# Altium footprint library Linear Technology PMIC-Switching Reg LT1074-LT8705.PcbLib: 146 footprints (part 3 of 10)
Each footprint in its own frame and in the unit in brackets; x right, y up, seen from the top. Pads: shape width x height; smd on the part's side, far side on the other; paste and mask are expansions set on the pad; w line width, h text height; cw(c..) or ccw(c..) is an arc to the next point about the centre after c.
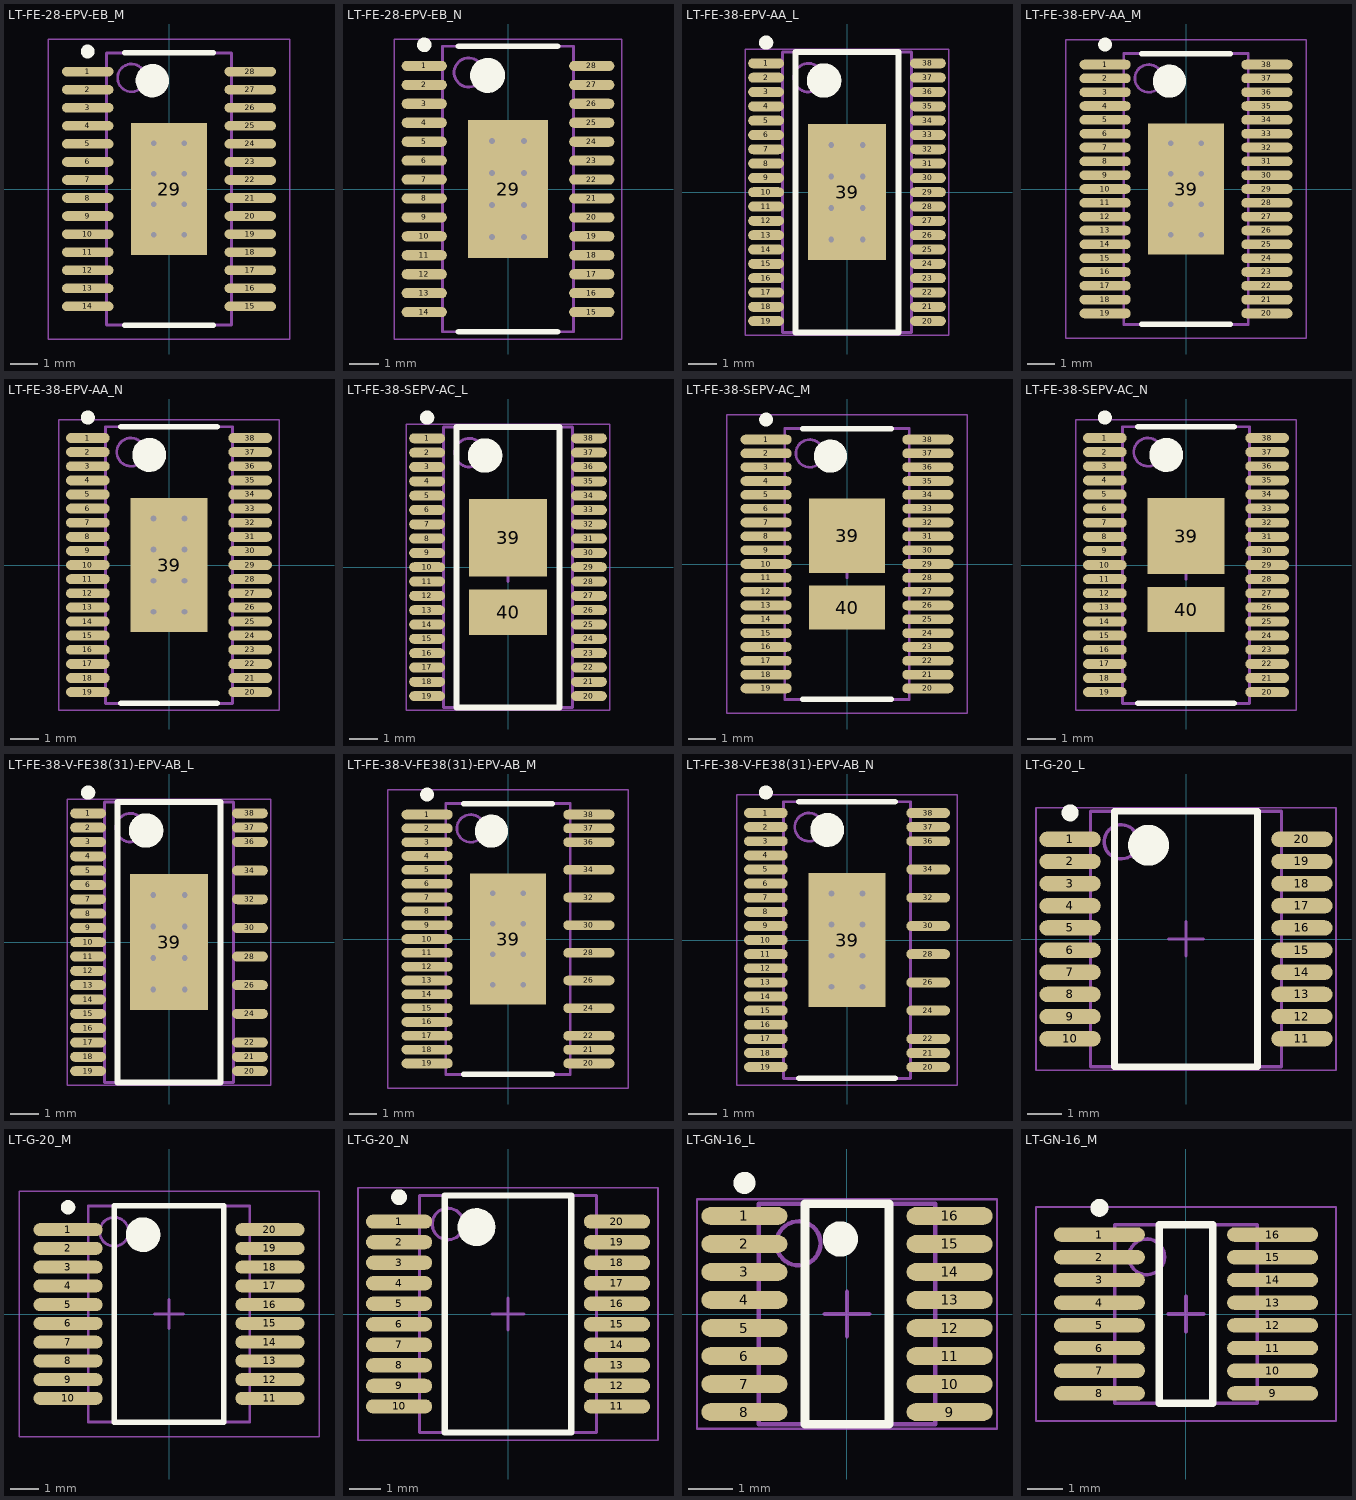
[diagram p2: the footprints below, top view; thin cyan lines are the x and y axes]

## LT-FE-28-EPV-EB_M [mm] "SOP, 28-Leads, Body 9.8x4.5mm, Pitch 0.65mm, Thermal Pad 4.75x2.74mm, IPC Low Density"
height 1.2
pads (29):
  oval 1.85x0.35 smd: 1(-2.925,4.225) 2(-2.925,3.575) 3(-2.925,2.925) 4(-2.925,2.275) 5(-2.925,1.625) 6(-2.925,0.975) 7(-2.925,0.325) 8(-2.925,-0.325) 9(-2.925,-0.975) 10(-2.925,-1.625) 11(-2.925,-2.275) 12(-2.925,-2.925) 13(-2.925,-3.575) 14(-2.925,-4.225) 15(2.925,-4.225) 16(2.925,-3.575) 17(2.925,-2.925) 18(2.925,-2.275) 19(2.925,-1.625) 20(2.925,-0.975) 21(2.925,-0.325) 22(2.925,0.325) 23(2.925,0.975) 24(2.925,1.625) 25(2.925,2.275) 26(2.925,2.925) 27(2.925,3.575) 28(2.925,4.225)
  rect 2.74x4.75 smd: 29(0,0)
via -0.55,1.65 diameter 0.5 hole 0.2
via 0.55,1.65 diameter 0.5 hole 0.2
via -0.55,0.55 diameter 0.5 hole 0.2
via 0.55,0.55 diameter 0.5 hole 0.2
via -0.55,-0.55 diameter 0.5 hole 0.2
via 0.55,-0.55 diameter 0.5 hole 0.2
via -0.55,-1.65 diameter 0.5 hole 0.2
via 0.55,-1.65 diameter 0.5 hole 0.2
Top Overlay:
  circle w0.25: c-2.925,4.95 r0.125
  circle w0.6: c-0.6,3.9 r0.3
  lines w0.2: -1.6,-4.9 1.6,-4.9 ; -1.6,4.9 1.6,4.9
Mechanical 13:
  circle w0.1: c-1.35,4 r0.5
  lines w0.1: -2.25,-4.9 -2.25,4.9 2.25,4.9 2.25,-4.9 -2.25,-4.9
Mechanical 15:
  lines w0.05: -4.35,-5.4 -4.35,5.4 4.35,5.4 4.35,-5.4 -4.35,-5.4
  lines w0.1: -0.5,0 0.5,0 ; 0,-0.5 0,0.5
3D body: height 1.2, standoff 0.05, extent -2.25,-4.9 2.25,4.9

## LT-FE-28-EPV-EB_N [mm] "SOP, 28-Leads, Body 9.8x4.5mm, Pitch 0.65mm, Thermal Pad 4.75x2.74mm, IPC Medium Density"
height 1.2
pads (29):
  oval 1.55x0.35 smd: 1(-2.875,4.225) 2(-2.875,3.575) 3(-2.875,2.925) 4(-2.875,2.275) 5(-2.875,1.625) 6(-2.875,0.975) 7(-2.875,0.325) 8(-2.875,-0.325) 9(-2.875,-0.975) 10(-2.875,-1.625) 11(-2.875,-2.275) 12(-2.875,-2.925) 13(-2.875,-3.575) 14(-2.875,-4.225) 15(2.875,-4.225) 16(2.875,-3.575) 17(2.875,-2.925) 18(2.875,-2.275) 19(2.875,-1.625) 20(2.875,-0.975) 21(2.875,-0.325) 22(2.875,0.325) 23(2.875,0.975) 24(2.875,1.625) 25(2.875,2.275) 26(2.875,2.925) 27(2.875,3.575) 28(2.875,4.225)
  rect 2.74x4.75 smd: 29(0,0)
via -0.55,1.65 diameter 0.5 hole 0.2
via 0.55,1.65 diameter 0.5 hole 0.2
via -0.55,0.55 diameter 0.5 hole 0.2
via 0.55,0.55 diameter 0.5 hole 0.2
via -0.55,-0.55 diameter 0.5 hole 0.2
via 0.55,-0.55 diameter 0.5 hole 0.2
via -0.55,-1.65 diameter 0.5 hole 0.2
via 0.55,-1.65 diameter 0.5 hole 0.2
Top Overlay:
  circle w0.25: c-2.875,4.95 r0.125
  circle w0.6: c-0.7,3.9 r0.3
  lines w0.2: -1.7,-4.9 1.7,-4.9 ; -1.7,4.9 1.7,4.9
Mechanical 13:
  circle w0.1: c-1.35,4 r0.5
  lines w0.1: -2.25,-4.9 -2.25,4.9 2.25,4.9 2.25,-4.9 -2.25,-4.9
Mechanical 15:
  lines w0.05: -3.9,-5.15 -3.9,5.15 3.9,5.15 3.9,-5.15 -3.9,-5.15
  lines w0.1: -0.5,0 0.5,0 ; 0,-0.5 0,0.5
3D body: height 1.2, standoff 0.05, extent -2.25,-4.9 2.25,4.9

## LT-FE-38-EPV-AA_L [mm] "SOP, 38-Leads, Body 9.8x4.5mm, Pitch 0.5mm, Thermal Pad 4.75x2.74mm, IPC High Density"
height 1.2
pads (39):
  oval 1.25x0.35 smd: 1(-2.825,4.5) 2(-2.825,4) 3(-2.825,3.5) 4(-2.825,3) 5(-2.825,2.5) 6(-2.825,2) 7(-2.825,1.5) 8(-2.825,1) 9(-2.825,0.5) 10(-2.825,0) 11(-2.825,-0.5) 12(-2.825,-1) 13(-2.825,-1.5) 14(-2.825,-2) 15(-2.825,-2.5) 16(-2.825,-3) 17(-2.825,-3.5) 18(-2.825,-4) 19(-2.825,-4.5) 20(2.825,-4.5) 21(2.825,-4) 22(2.825,-3.5) 23(2.825,-3) 24(2.825,-2.5) 25(2.825,-2) 26(2.825,-1.5) 27(2.825,-1) 28(2.825,-0.5) 29(2.825,0) 30(2.825,0.5) 31(2.825,1) 32(2.825,1.5) 33(2.825,2) 34(2.825,2.5) 35(2.825,3) 36(2.825,3.5) 37(2.825,4) 38(2.825,4.5)
  rect 2.74x4.75 smd: 39(0,0)
via 0.55,-1.65 diameter 0.5 hole 0.2
via -0.55,-1.65 diameter 0.5 hole 0.2
via 0.55,-0.55 diameter 0.5 hole 0.2
via -0.55,-0.55 diameter 0.5 hole 0.2
via 0.55,0.55 diameter 0.5 hole 0.2
via -0.55,0.55 diameter 0.5 hole 0.2
via 0.55,1.65 diameter 0.5 hole 0.2
via -0.55,1.65 diameter 0.5 hole 0.2
Top Overlay:
  circle w0.6: c-0.8,3.9 r0.3
  circle w0.25: c-2.825,5.225 r0.125
  lines w0.2: -1.8,-4.9 1.8,-4.9 1.8,4.9 -1.8,4.9 -1.8,-4.9
Mechanical 13:
  circle w0.1: c-1.35,4 r0.5
  lines w0.1: -2.25,-4.9 2.25,-4.9 2.25,4.9 -2.25,4.9 -2.25,-4.9
Mechanical 15:
  lines w0.05: -3.55,-5 3.55,-5 3.55,5 -3.55,5 -3.55,-5
  lines w0.1: -0.5,0 0.5,0 ; 0,-0.5 0,0.5
3D body: height 1.2, standoff 0.05, extent -2.25,-4.9 2.25,4.9

## LT-FE-38-EPV-AA_M [mm] "SOP, 38-Leads, Body 9.8x4.5mm, Pitch 0.5mm, Thermal Pad 4.75x2.74mm, IPC Low Density"
height 1.2
pads (39):
  oval 1.85x0.35 smd: 1(-2.925,4.5) 2(-2.925,4) 3(-2.925,3.5) 4(-2.925,3) 5(-2.925,2.5) 6(-2.925,2) 7(-2.925,1.5) 8(-2.925,1) 9(-2.925,0.5) 10(-2.925,0) 11(-2.925,-0.5) 12(-2.925,-1) 13(-2.925,-1.5) 14(-2.925,-2) 15(-2.925,-2.5) 16(-2.925,-3) 17(-2.925,-3.5) 18(-2.925,-4) 19(-2.925,-4.5) 20(2.925,-4.5) 21(2.925,-4) 22(2.925,-3.5) 23(2.925,-3) 24(2.925,-2.5) 25(2.925,-2) 26(2.925,-1.5) 27(2.925,-1) 28(2.925,-0.5) 29(2.925,0) 30(2.925,0.5) 31(2.925,1) 32(2.925,1.5) 33(2.925,2) 34(2.925,2.5) 35(2.925,3) 36(2.925,3.5) 37(2.925,4) 38(2.925,4.5)
  rect 2.74x4.75 smd: 39(0,0)
via 0.55,-1.65 diameter 0.5 hole 0.2
via -0.55,-1.65 diameter 0.5 hole 0.2
via 0.55,-0.55 diameter 0.5 hole 0.2
via -0.55,-0.55 diameter 0.5 hole 0.2
via 0.55,0.55 diameter 0.5 hole 0.2
via -0.55,0.55 diameter 0.5 hole 0.2
via 0.55,1.65 diameter 0.5 hole 0.2
via -0.55,1.65 diameter 0.5 hole 0.2
Top Overlay:
  circle w0.6: c-0.6,3.9 r0.3
  circle w0.25: c-2.925,5.225 r0.125
  lines w0.2: -1.6,-4.9 1.6,-4.9 ; -1.6,4.9 1.6,4.9
Mechanical 13:
  circle w0.1: c-1.35,4 r0.5
  lines w0.1: -2.25,-4.9 2.25,-4.9 2.25,4.9 -2.25,4.9 -2.25,-4.9
Mechanical 15:
  lines w0.05: -4.35,-5.4 4.35,-5.4 4.35,5.4 -4.35,5.4 -4.35,-5.4
  lines w0.1: -0.5,0 0.5,0 ; 0,-0.5 0,0.5
3D body: height 1.2, standoff 0.05, extent -2.25,-4.9 2.25,4.9

## LT-FE-38-EPV-AA_N [mm] "SOP, 38-Leads, Body 9.8x4.5mm, Pitch 0.5mm, Thermal Pad 4.75x2.74mm, IPC Medium Density"
height 1.2
pads (39):
  oval 1.55x0.35 smd: 1(-2.875,4.5) 2(-2.875,4) 3(-2.875,3.5) 4(-2.875,3) 5(-2.875,2.5) 6(-2.875,2) 7(-2.875,1.5) 8(-2.875,1) 9(-2.875,0.5) 10(-2.875,0) 11(-2.875,-0.5) 12(-2.875,-1) 13(-2.875,-1.5) 14(-2.875,-2) 15(-2.875,-2.5) 16(-2.875,-3) 17(-2.875,-3.5) 18(-2.875,-4) 19(-2.875,-4.5) 20(2.875,-4.5) 21(2.875,-4) 22(2.875,-3.5) 23(2.875,-3) 24(2.875,-2.5) 25(2.875,-2) 26(2.875,-1.5) 27(2.875,-1) 28(2.875,-0.5) 29(2.875,0) 30(2.875,0.5) 31(2.875,1) 32(2.875,1.5) 33(2.875,2) 34(2.875,2.5) 35(2.875,3) 36(2.875,3.5) 37(2.875,4) 38(2.875,4.5)
  rect 2.74x4.75 smd: 39(0,0)
via 0.55,-1.65 diameter 0.5 hole 0.2
via -0.55,-1.65 diameter 0.5 hole 0.2
via 0.55,-0.55 diameter 0.5 hole 0.2
via -0.55,-0.55 diameter 0.5 hole 0.2
via 0.55,0.55 diameter 0.5 hole 0.2
via -0.55,0.55 diameter 0.5 hole 0.2
via 0.55,1.65 diameter 0.5 hole 0.2
via -0.55,1.65 diameter 0.5 hole 0.2
Top Overlay:
  circle w0.6: c-0.7,3.9 r0.3
  circle w0.25: c-2.875,5.225 r0.125
  lines w0.2: -1.7,-4.9 1.7,-4.9 ; -1.7,4.9 1.7,4.9
Mechanical 13:
  circle w0.1: c-1.35,4 r0.5
  lines w0.1: -2.25,-4.9 2.25,-4.9 2.25,4.9 -2.25,4.9 -2.25,-4.9
Mechanical 15:
  lines w0.05: -3.9,-5.15 3.9,-5.15 3.9,5.15 -3.9,5.15 -3.9,-5.15
  lines w0.1: -0.5,0 0.5,0 ; 0,-0.5 0,0.5
3D body: height 1.2, standoff 0.05, extent -2.25,-4.9 2.25,4.9

## LT-FE-38-SEPV-AC_L [mm] "SOP, 38-Leads, Body 9.8x4.5mm, Pitch 0.5mm, IPC High Density"
height 1.2
pads (40):
  oval 1.25x0.35 smd: 1(-2.825,4.5) 2(-2.825,4) 3(-2.825,3.5) 4(-2.825,3) 5(-2.825,2.5) 6(-2.825,2) 7(-2.825,1.5) 8(-2.825,1) 9(-2.825,0.5) 10(-2.825,0) 11(-2.825,-0.5) 12(-2.825,-1) 13(-2.825,-1.5) 14(-2.825,-2) 15(-2.825,-2.5) 16(-2.825,-3) 17(-2.825,-3.5) 18(-2.825,-4) 19(-2.825,-4.5) 20(2.825,-4.5) 21(2.825,-4) 22(2.825,-3.5) 23(2.825,-3) 24(2.825,-2.5) 25(2.825,-2) 26(2.825,-1.5) 27(2.825,-1) 28(2.825,-0.5) 29(2.825,0) 30(2.825,0.5) 31(2.825,1) 32(2.825,1.5) 33(2.825,2) 34(2.825,2.5) 35(2.825,3) 36(2.825,3.5) 37(2.825,4) 38(2.825,4.5)
  rect 2.74x2.7 smd: 39(0,1.025)
  rect 2.74x1.6 smd: 40(0,-1.575)
Top Overlay:
  circle w0.25: c-2.825,5.225 r0.125
  circle w0.6: c-0.8,3.9 r0.3
  lines w0.2: -1.8,-4.9 -1.8,4.9 1.8,4.9 1.8,-4.9 -1.8,-4.9
Mechanical 13:
  circle w0.1: c-1.35,4 r0.5
  lines w0.1: -2.25,-4.9 -2.25,4.9 2.25,4.9 2.25,-4.9 -2.25,-4.9
Mechanical 15:
  lines w0.05: -3.55,-5 -3.55,5 3.55,5 3.55,-5 -3.55,-5
  lines w0.1: -0.5,0 0.5,0 ; 0,-0.5 0,0.5
3D body: height 1.2, standoff 0.05, extent -2.25,-4.9 2.25,4.9

## LT-FE-38-SEPV-AC_M [mm] "SOP, 38-Leads, Body 9.8x4.5mm, Pitch 0.5mm, IPC Low Density"
height 1.2
pads (40):
  oval 1.85x0.35 smd: 1(-2.925,4.5) 2(-2.925,4) 3(-2.925,3.5) 4(-2.925,3) 5(-2.925,2.5) 6(-2.925,2) 7(-2.925,1.5) 8(-2.925,1) 9(-2.925,0.5) 10(-2.925,0) 11(-2.925,-0.5) 12(-2.925,-1) 13(-2.925,-1.5) 14(-2.925,-2) 15(-2.925,-2.5) 16(-2.925,-3) 17(-2.925,-3.5) 18(-2.925,-4) 19(-2.925,-4.5) 20(2.925,-4.5) 21(2.925,-4) 22(2.925,-3.5) 23(2.925,-3) 24(2.925,-2.5) 25(2.925,-2) 26(2.925,-1.5) 27(2.925,-1) 28(2.925,-0.5) 29(2.925,0) 30(2.925,0.5) 31(2.925,1) 32(2.925,1.5) 33(2.925,2) 34(2.925,2.5) 35(2.925,3) 36(2.925,3.5) 37(2.925,4) 38(2.925,4.5)
  rect 2.74x2.7 smd: 39(0,1.025)
  rect 2.74x1.6 smd: 40(0,-1.575)
Top Overlay:
  circle w0.25: c-2.925,5.225 r0.125
  circle w0.6: c-0.6,3.9 r0.3
  lines w0.2: -1.6,-4.9 1.6,-4.9 ; -1.6,4.9 1.6,4.9
Mechanical 13:
  circle w0.1: c-1.35,4 r0.5
  lines w0.1: -2.25,-4.9 -2.25,4.9 2.25,4.9 2.25,-4.9 -2.25,-4.9
Mechanical 15:
  lines w0.05: -4.35,-5.4 -4.35,5.4 4.35,5.4 4.35,-5.4 -4.35,-5.4
  lines w0.1: -0.5,0 0.5,0 ; 0,-0.5 0,0.5
3D body: height 1.2, standoff 0.05, extent -2.25,-4.9 2.25,4.9

## LT-FE-38-SEPV-AC_N [mm] "SOP, 38-Leads, Body 9.8x4.5mm, Pitch 0.5mm, IPC Medium Density"
height 1.2
pads (40):
  oval 1.55x0.35 smd: 1(-2.875,4.5) 2(-2.875,4) 3(-2.875,3.5) 4(-2.875,3) 5(-2.875,2.5) 6(-2.875,2) 7(-2.875,1.5) 8(-2.875,1) 9(-2.875,0.5) 10(-2.875,0) 11(-2.875,-0.5) 12(-2.875,-1) 13(-2.875,-1.5) 14(-2.875,-2) 15(-2.875,-2.5) 16(-2.875,-3) 17(-2.875,-3.5) 18(-2.875,-4) 19(-2.875,-4.5) 20(2.875,-4.5) 21(2.875,-4) 22(2.875,-3.5) 23(2.875,-3) 24(2.875,-2.5) 25(2.875,-2) 26(2.875,-1.5) 27(2.875,-1) 28(2.875,-0.5) 29(2.875,0) 30(2.875,0.5) 31(2.875,1) 32(2.875,1.5) 33(2.875,2) 34(2.875,2.5) 35(2.875,3) 36(2.875,3.5) 37(2.875,4) 38(2.875,4.5)
  rect 2.74x2.7 smd: 39(0,1.025)
  rect 2.74x1.6 smd: 40(0,-1.575)
Top Overlay:
  circle w0.25: c-2.875,5.225 r0.125
  circle w0.6: c-0.7,3.9 r0.3
  lines w0.2: -1.7,-4.9 1.7,-4.9 ; -1.7,4.9 1.7,4.9
Mechanical 13:
  circle w0.1: c-1.35,4 r0.5
  lines w0.1: -2.25,-4.9 -2.25,4.9 2.25,4.9 2.25,-4.9 -2.25,-4.9
Mechanical 15:
  lines w0.05: -3.9,-5.15 -3.9,5.15 3.9,5.15 3.9,-5.15 -3.9,-5.15
  lines w0.1: -0.5,0 0.5,0 ; 0,-0.5 0,0.5
3D body: height 1.2, standoff 0.05, extent -2.25,-4.9 2.25,4.9

## LT-FE-38-V-FE38(31)-EPV-AB_L [mm] "SOP, 31-Leads, Body 9.8x4.5mm, Pitch 0.5mm, Thermal Pad 4.75x2.74mm, IPC High Density"
height 1.2
pads (32):
  oval 1.25x0.35 smd: 1(-2.825,4.5) 2(-2.825,4) 3(-2.825,3.5) 4(-2.825,3) 5(-2.825,2.5) 6(-2.825,2) 7(-2.825,1.5) 8(-2.825,1) 9(-2.825,0.5) 10(-2.825,0) 11(-2.825,-0.5) 12(-2.825,-1) 13(-2.825,-1.5) 14(-2.825,-2) 15(-2.825,-2.5) 16(-2.825,-3) 17(-2.825,-3.5) 18(-2.825,-4) 19(-2.825,-4.5) 20(2.825,-4.5) 21(2.825,-4) 22(2.825,-3.5) 24(2.825,-2.5) 26(2.825,-1.5) 28(2.825,-0.5) 30(2.825,0.5) 32(2.825,1.5) 34(2.825,2.5) 36(2.825,3.5) 37(2.825,4) 38(2.825,4.5)
  rect 2.74x4.75 smd: 39(0,0)
via -0.55,1.65 diameter 0.5 hole 0.2
via 0.55,1.65 diameter 0.5 hole 0.2
via -0.55,0.55 diameter 0.5 hole 0.2
via 0.55,0.55 diameter 0.5 hole 0.2
via -0.55,-0.55 diameter 0.5 hole 0.2
via 0.55,-0.55 diameter 0.5 hole 0.2
via -0.55,-1.65 diameter 0.5 hole 0.2
via 0.55,-1.65 diameter 0.5 hole 0.2
Top Overlay:
  circle w0.25: c-2.825,5.225 r0.125
  circle w0.6: c-0.8,3.9 r0.3
  lines w0.2: -1.8,-4.9 -1.8,4.9 1.8,4.9 1.8,-4.9 -1.8,-4.9
Mechanical 13:
  circle w0.1: c-1.35,4 r0.5
  lines w0.1: -2.25,-4.9 -2.25,4.9 2.25,4.9 2.25,-4.9 -2.25,-4.9
Mechanical 15:
  lines w0.05: -3.55,-5 -3.55,5 3.55,5 3.55,-5 -3.55,-5
  lines w0.1: -0.5,0 0.5,0 ; 0,-0.5 0,0.5
3D body: height 1.2, standoff 0.05, extent -2.25,-4.9 2.25,4.9

## LT-FE-38-V-FE38(31)-EPV-AB_M [mm] "SOP, 31-Leads, Body 9.8x4.5mm, Pitch 0.5mm, Thermal Pad 4.75x2.74mm, IPC Low Density"
height 1.2
pads (32):
  oval 1.85x0.35 smd: 1(-2.925,4.5) 2(-2.925,4) 3(-2.925,3.5) 4(-2.925,3) 5(-2.925,2.5) 6(-2.925,2) 7(-2.925,1.5) 8(-2.925,1) 9(-2.925,0.5) 10(-2.925,0) 11(-2.925,-0.5) 12(-2.925,-1) 13(-2.925,-1.5) 14(-2.925,-2) 15(-2.925,-2.5) 16(-2.925,-3) 17(-2.925,-3.5) 18(-2.925,-4) 19(-2.925,-4.5) 20(2.925,-4.5) 21(2.925,-4) 22(2.925,-3.5) 24(2.925,-2.5) 26(2.925,-1.5) 28(2.925,-0.5) 30(2.925,0.5) 32(2.925,1.5) 34(2.925,2.5) 36(2.925,3.5) 37(2.925,4) 38(2.925,4.5)
  rect 2.74x4.75 smd: 39(0,0)
via -0.55,1.65 diameter 0.5 hole 0.2
via 0.55,1.65 diameter 0.5 hole 0.2
via -0.55,0.55 diameter 0.5 hole 0.2
via 0.55,0.55 diameter 0.5 hole 0.2
via -0.55,-0.55 diameter 0.5 hole 0.2
via 0.55,-0.55 diameter 0.5 hole 0.2
via -0.55,-1.65 diameter 0.5 hole 0.2
via 0.55,-1.65 diameter 0.5 hole 0.2
Top Overlay:
  circle w0.25: c-2.925,5.225 r0.125
  circle w0.6: c-0.6,3.9 r0.3
  lines w0.2: -1.6,-4.9 1.6,-4.9 ; -1.6,4.9 1.6,4.9
Mechanical 13:
  circle w0.1: c-1.35,4 r0.5
  lines w0.1: -2.25,-4.9 -2.25,4.9 2.25,4.9 2.25,-4.9 -2.25,-4.9
Mechanical 15:
  lines w0.05: -4.35,-5.4 -4.35,5.4 4.35,5.4 4.35,-5.4 -4.35,-5.4
  lines w0.1: -0.5,0 0.5,0 ; 0,-0.5 0,0.5
3D body: height 1.2, standoff 0.05, extent -2.25,-4.9 2.25,4.9

## LT-FE-38-V-FE38(31)-EPV-AB_N [mm] "SOP, 31-Leads, Body 9.8x4.5mm, Pitch 0.5mm, Thermal Pad 4.75x2.74mm, IPC Medium Density"
height 1.2
pads (32):
  oval 1.55x0.35 smd: 1(-2.875,4.5) 2(-2.875,4) 3(-2.875,3.5) 4(-2.875,3) 5(-2.875,2.5) 6(-2.875,2) 7(-2.875,1.5) 8(-2.875,1) 9(-2.875,0.5) 10(-2.875,0) 11(-2.875,-0.5) 12(-2.875,-1) 13(-2.875,-1.5) 14(-2.875,-2) 15(-2.875,-2.5) 16(-2.875,-3) 17(-2.875,-3.5) 18(-2.875,-4) 19(-2.875,-4.5) 20(2.875,-4.5) 21(2.875,-4) 22(2.875,-3.5) 24(2.875,-2.5) 26(2.875,-1.5) 28(2.875,-0.5) 30(2.875,0.5) 32(2.875,1.5) 34(2.875,2.5) 36(2.875,3.5) 37(2.875,4) 38(2.875,4.5)
  rect 2.74x4.75 smd: 39(0,0)
via -0.55,1.65 diameter 0.5 hole 0.2
via 0.55,1.65 diameter 0.5 hole 0.2
via -0.55,0.55 diameter 0.5 hole 0.2
via 0.55,0.55 diameter 0.5 hole 0.2
via -0.55,-0.55 diameter 0.5 hole 0.2
via 0.55,-0.55 diameter 0.5 hole 0.2
via -0.55,-1.65 diameter 0.5 hole 0.2
via 0.55,-1.65 diameter 0.5 hole 0.2
Top Overlay:
  circle w0.25: c-2.875,5.225 r0.125
  circle w0.6: c-0.7,3.9 r0.3
  lines w0.2: -1.7,-4.9 1.7,-4.9 ; -1.7,4.9 1.7,4.9
Mechanical 13:
  circle w0.1: c-1.35,4 r0.5
  lines w0.1: -2.25,-4.9 -2.25,4.9 2.25,4.9 2.25,-4.9 -2.25,-4.9
Mechanical 15:
  lines w0.05: -3.9,-5.15 -3.9,5.15 3.9,5.15 3.9,-5.15 -3.9,-5.15
  lines w0.1: -0.5,0 0.5,0 ; 0,-0.5 0,0.5
3D body: height 1.2, standoff 0.05, extent -2.25,-4.9 2.25,4.9

## LT-G-20_L [mm] "SOP, 20-Leads, Body 7.2x5.3mm, Pitch 0.65mm, IPC High Density"
height 2
pads (20):
  oval 1.8x0.45 smd: 1(-3.4,2.925) 2(-3.4,2.275) 3(-3.4,1.625) 4(-3.4,0.975) 5(-3.4,0.325) 6(-3.4,-0.325) 7(-3.4,-0.975) 8(-3.4,-1.625) 9(-3.4,-2.275) 10(-3.4,-2.925) 11(3.4,-2.925) 12(3.4,-2.275) 13(3.4,-1.625) 14(3.4,-0.975) 15(3.4,-0.325) 16(3.4,0.325) 17(3.4,0.975) 18(3.4,1.625) 19(3.4,2.275) 20(3.4,2.925)
Top Overlay:
  circle w0.25: c-3.4,3.7 r0.125
  circle w0.6: c-1.1,2.75 r0.3
  lines w0.2: -2.1,-3.75 -2.1,3.75 2.1,3.75 2.1,-3.75 -2.1,-3.75
Mechanical 13:
  circle w0.1: c-1.9,2.85 r0.5
  lines w0.1: -2.8,-3.75 -2.8,3.75 2.8,3.75 2.8,-3.75 -2.8,-3.75
Mechanical 15:
  lines w0.05: -4.4,-3.85 -4.4,3.85 4.4,3.85 4.4,-3.85 -4.4,-3.85
  lines w0.1: -0.5,0 0.5,0 ; 0,-0.5 0,0.5
3D body: height 2, standoff 0.05, extent -2.8,-3.75 2.8,3.75

## LT-G-20_M [mm] "SOP, 20-Leads, Body 7.2x5.3mm, Pitch 0.65mm, IPC Low Density"
height 2
pads (20):
  oval 2.4x0.45 smd: 1(-3.5,2.925) 2(-3.5,2.275) 3(-3.5,1.625) 4(-3.5,0.975) 5(-3.5,0.325) 6(-3.5,-0.325) 7(-3.5,-0.975) 8(-3.5,-1.625) 9(-3.5,-2.275) 10(-3.5,-2.925) 11(3.5,-2.925) 12(3.5,-2.275) 13(3.5,-1.625) 14(3.5,-0.975) 15(3.5,-0.325) 16(3.5,0.325) 17(3.5,0.975) 18(3.5,1.625) 19(3.5,2.275) 20(3.5,2.925)
Top Overlay:
  circle w0.25: c-3.5,3.7 r0.125
  circle w0.6: c-0.9,2.75 r0.3
  lines w0.2: -1.9,-3.75 -1.9,3.75 1.9,3.75 1.9,-3.75 -1.9,-3.75
Mechanical 13:
  circle w0.1: c-1.9,2.85 r0.5
  lines w0.1: -2.8,-3.75 -2.8,3.75 2.8,3.75 2.8,-3.75 -2.8,-3.75
Mechanical 15:
  lines w0.05: -5.2,-4.25 -5.2,4.25 5.2,4.25 5.2,-4.25 -5.2,-4.25
  lines w0.1: -0.5,0 0.5,0 ; 0,-0.5 0,0.5
3D body: height 2, standoff 0.05, extent -2.8,-3.75 2.8,3.75

## LT-G-20_N [mm] "SOP, 20-Leads, Body 7.2x5.3mm, Pitch 0.65mm, IPC Medium Density"
height 2
pads (20):
  oval 2.1x0.45 smd: 1(-3.45,2.925) 2(-3.45,2.275) 3(-3.45,1.625) 4(-3.45,0.975) 5(-3.45,0.325) 6(-3.45,-0.325) 7(-3.45,-0.975) 8(-3.45,-1.625) 9(-3.45,-2.275) 10(-3.45,-2.925) 11(3.45,-2.925) 12(3.45,-2.275) 13(3.45,-1.625) 14(3.45,-0.975) 15(3.45,-0.325) 16(3.45,0.325) 17(3.45,0.975) 18(3.45,1.625) 19(3.45,2.275) 20(3.45,2.925)
Top Overlay:
  circle w0.25: c-3.45,3.7 r0.125
  circle w0.6: c-1,2.75 r0.3
  lines w0.2: -2,-3.75 -2,3.75 2,3.75 2,-3.75 -2,-3.75
Mechanical 13:
  circle w0.1: c-1.9,2.85 r0.5
  lines w0.1: -2.8,-3.75 -2.8,3.75 2.8,3.75 2.8,-3.75 -2.8,-3.75
Mechanical 15:
  lines w0.05: -4.75,-4 -4.75,4 4.75,4 4.75,-4 -4.75,-4
  lines w0.1: -0.5,0 0.5,0 ; 0,-0.5 0,0.5
3D body: height 2, standoff 0.05, extent -2.8,-3.75 2.8,3.75

## LT-GN-16_L [mm] "SOP, 16-Leads, Body 5x4mm, Pitch 0.635mm, IPC High Density"
height 1.75
pads (16):
  oval 1.95x0.4 smd: 1(-2.325,2.222) 2(-2.325,1.587) 3(-2.325,0.953) 4(-2.325,0.318) 5(-2.325,-0.318) 6(-2.325,-0.953) 7(-2.325,-1.587) 8(-2.325,-2.222) 9(2.325,-2.222) 10(2.325,-1.587) 11(2.325,-0.953) 12(2.325,-0.318) 13(2.325,0.318) 14(2.325,0.953) 15(2.325,1.587) 16(2.325,2.222)
Top Overlay:
  circle w0.4: c-0.15,1.7 r0.2
  circle w0.25: c-2.325,2.973 r0.125
  lines w0.2: -0.95,-2.5 0.95,-2.5 0.95,2.5 -0.95,2.5 -0.95,-2.5
Mechanical 13:
  circle w0.1: c-1.1,1.6 r0.5
  lines w0.1: -2,-2.5 2,-2.5 2,2.5 -2,2.5 -2,-2.5
Mechanical 15:
  lines w0.05: -3.4,-2.6 3.4,-2.6 3.4,2.6 -3.4,2.6 -3.4,-2.6
  lines w0.1: -0.5,0 0.5,0 ; 0,-0.5 0,0.5
3D body: height 1.75, standoff 0.1, extent -2,-2.5 2,2.5

## LT-GN-16_M [mm] "SOP, 16-Leads, Body 5x4mm, Pitch 0.635mm, IPC Low Density"
height 1.75
pads (16):
  oval 2.55x0.4 smd: 1(-2.425,2.222) 2(-2.425,1.587) 3(-2.425,0.953) 4(-2.425,0.318) 5(-2.425,-0.318) 6(-2.425,-0.953) 7(-2.425,-1.587) 8(-2.425,-2.222) 9(2.425,-2.222) 10(2.425,-1.587) 11(2.425,-0.953) 12(2.425,-0.318) 13(2.425,0.318) 14(2.425,0.953) 15(2.425,1.587) 16(2.425,2.222)
Top Overlay:
  circle w0.25: c-2.425,2.973 r0.125
  lines w0.2: -0.75,-2.5 -0.75,2.5 0.75,2.5 0.75,-2.5 -0.75,-2.5
Mechanical 13:
  circle w0.1: c-1.1,1.6 r0.5
  lines w0.1: -2,-2.5 -2,2.5 2,2.5 2,-2.5 -2,-2.5
Mechanical 15:
  lines w0.05: -4.2,-3 -4.2,3 4.2,3 4.2,-3 -4.2,-3
  lines w0.1: -0.5,0 0.5,0 ; 0,-0.5 0,0.5
3D body: height 1.75, standoff 0.1, extent -2,-2.5 2,2.5